# EAGLE library part 693042010611 (library WR-CRD)
WR-CRD SIM Card Connectors Characteristics Available in three form factors: Mini, Micro and Nano Available in three entry types: Push-Pull, Hinge and Push-Push Compatible with SIM and MegaSIM standards Applications Mobile Broadband Communication Internet of Things Fleet Management Security and Authentication Machine-to-Machine Communication <https://www.we-online.com/components/media/o732987v209%20693021020811_Multi-parts.jpg> Details see: www.we-online.com/components/products/WR_CRD_CARD_CONNECTOR_SIM <www.we-online.com/catalog/WR_CRD_CARD_CONNECTOR_SIM/?utm_source=eagle_model&utm_medium=description_link&utm_campaign=eisos_eagle> Created by Ella Wu 2025-04-28 2025 (C) Würth Elektronik
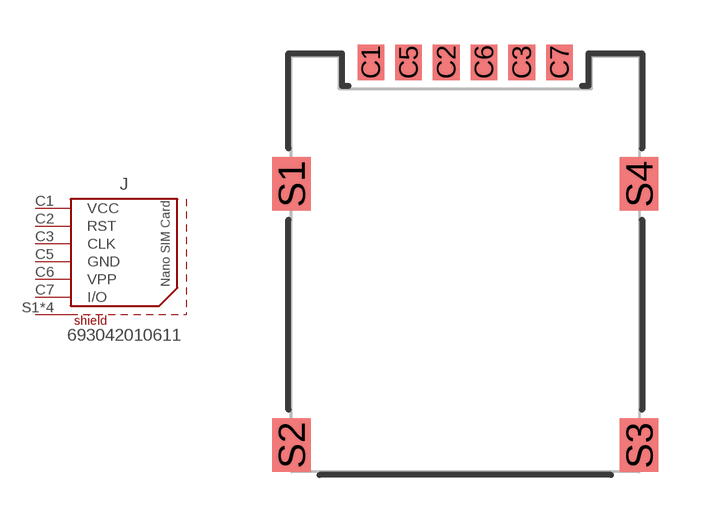
[diagram p1: symbol with the pads of 693042010611; footprint 693042010611]

Designator prefix J

## 693042010611 (DATASHEET-URL: https://www.we-online.com/redexpert/spec/693042010611?ae; DURABILITY: 5000 Mating Cycles; GERDER: Socket; MOUNT: SMT; PART-NUMBER: 693042010611; PINS: 6pcs; SIZE: Nano SIM; TYPE: Hinge; VALUE: 693042010611)  [693042010611]
C1  VCC  pas
C2  RST  pas
C3  CLK  pas
C5  GND  pas
C6  VPP  pas
C7  I/O  pas
S1  SHIELD  pas
S2  SHIELD  pas
S3  SHIELD  pas
S4  SHIELD  pas

## Footprint 693042010611 (pad centres in mm)
smd 0.9 x 1.2: C1 -3.175,4.1; C2 -0.635,4.1; C3 1.905,4.1; C5 -1.905,4.1; C6 0.635,4.1; C7 3.175,4.1
smd 1.3 x 1.8: S1 -5.85,0; S2 -5.85,-8.8; S3 5.85,-8.8; S4 5.85,0